# EAGLE library part TE-969973-4 (library TE-969973-FemaleHeaderSMD)
TE 969973 8-way 2x4 SMD Female Header
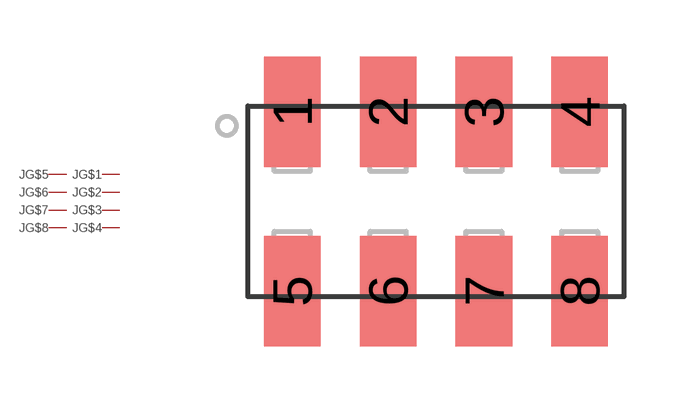
[diagram p1: symbol with the pads of 969973-4; footprint 969973-4]

Designator prefix J; gates G$1=PIN G$2=PIN G$3=PIN G$4=PIN G$5=PIN G$6=PIN G$7=PIN G$8=PIN

## TE-969973-4  [969973-4]
1  G$1:P$1
2  G$2:P$1
3  G$3:P$1
4  G$4:P$1
5  G$5:P$1
6  G$6:P$1
7  G$7:P$1
8  G$8:P$1

## Footprint 969973-4 (pad centres in mm)
smd 1.5 x 2.93: 1 -3.81,2.375; 2 -1.27,2.375; 3 1.27,2.375; 4 3.81,2.375; 5 -3.81,-2.375; 6 -1.27,-2.375; 7 1.27,-2.375; 8 3.81,-2.375